# Altium footprint library ISeniorDesign.PcbLib: 19 footprints (part 2 of 2)
Each footprint in its own frame and in the unit in brackets; x right, y up, seen from the top. Pads: shape width x height; smd on the part's side, far side on the other; paste and mask are expansions set on the pad; w line width, h text height; cw(c..) or ccw(c..) is an arc to the next point about the centre after c.
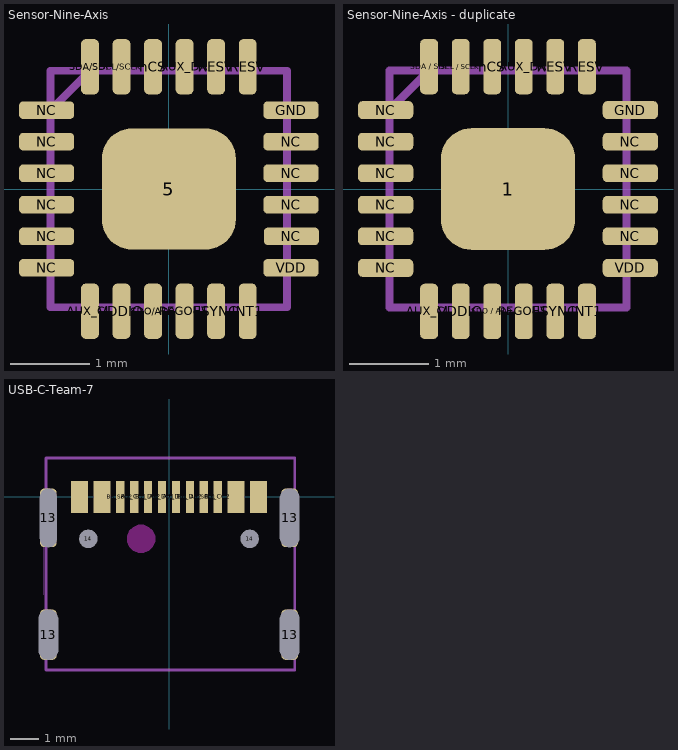
[diagram p1: the footprints below, top view; thin cyan lines are the x and y axes]

## Sensor-Nine-Axis [mm]
height 1
pads (26):
  rrect50% 1.7x1.54 smd: 5(0,0) ""(0,0)
  rrect50% 0.225x0.7 smd: AUX_CL(-1,-1.55) AUX_DA(0.2,1.55) FSYNC(0.6,-1.55) INT1(1,-1.55) nCS(-0.2,1.55) REGOUT(0.2,-1.55) RESV(0.6,1.55) RESV(1,1.55) SCL/SCLK(-0.6,1.55) SDA/SDI(-1,1.55) SDO/AD0(-0.2,-1.55) VDDIO(-0.6,-1.55)
  rrect50% 0.7x0.225 smd: GND(1.55,1) NC(-1.55,-1) NC(-1.55,-0.6) NC(-1.55,-0.2) NC(-1.55,0.2) NC(-1.55,0.6) NC(-1.55,1) NC(1.55,-0.2) NC(1.55,0.2) NC(1.55,0.6) NC(1.555,-0.6) VDD(1.55,-1)
Top Assembly:
  lines w0.1: -1.5,1 -1,1.5 ; -1.5,-1.5 1.5,-1.5 1.5,1.5 -1.5,1.5 -1.5,-1.5
  text ".Designator" at -0.9,-0.267 h0.4
3D body: height 1, standoff 0, extent -1.5,-1.5 1.5,1.5

## Sensor-Nine-Axis - duplicate [mm]
height 1
pads (25):
  rrect50% 1.7x1.54 smd: 1(0,0)
  rrect50% 0.225x0.7 smd: AUX_CL(-1,-1.55) AUX_DA(0.2,1.55) FSYNC(0.6,-1.55) INT1(1,-1.55) nCS(-0.2,1.55) REGOUT(0.2,-1.55) RESV(0.6,1.55) RESV(1,1.55) "SCL / SCLK"(-0.6,1.55) "SDA / SDI"(-1,1.55) "SDO / AD0"(-0.2,-1.55) VDDIO(-0.6,-1.55)
  rrect50% 0.7x0.225 smd: GND(1.55,1) NC(-1.55,-1) NC(-1.55,-0.6) NC(-1.55,-0.2) NC(-1.55,0.2) NC(-1.55,0.6) NC(-1.55,1) NC(1.55,-0.6) NC(1.55,-0.2) NC(1.55,0.2) NC(1.55,0.6) VDD(1.55,-1)
Top Assembly:
  lines w0.1: -1.5,1 -1,1.5 ; -1.5,-1.5 1.5,-1.5 1.5,1.5 -1.5,1.5 -1.5,-1.5
  text ".Designator" at -2.125,-2.45 h0.4
3D body: height 0.25, standoff 0, extent -1.5,-1.5 1.5,1.5

## USB-C-Team-7 [mm]
pads (18):
  rrect50% 0.6x1.8 hole 0.7 slot 1.8 at 90 deg mask+0: 13(-4.32,-4.93) 13(4.32,-4.93)
  rrect50% 0.6x2.1 hole 0.6 slot 2.1 at 90 deg mask+0: 13(-4.32,-0.75)
  rrect50% 0.6x2.1 hole 0.7 slot 2.1 at 90 deg mask+0: 13(4.32,-0.75)
  round 0.325 hole 0.65 mask+0: 14(-2.89,-1.5) 14(2.89,-1.5)
  rect 0.6x1.14 smd: A1_B12_GND(-3.2,0) A4_B9_VBUS(-2.4,0) B1_A12_GND(3.2,0) B4_A9_VBUS(2.4,0)
  rect 0.3x1.14 smd: A5_CC1(-1.25,0) A6_Dp1(-0.25,0) A7_Dn1(0.25,0) A8_SBU1(1.25,0) B5_CC2(1.75,0) B6_Dp2(0.75,0) B6_SBU2(-1.75,0) B7_Dn2(-0.75,0)
Keep-Out Layer:
  region: -1.5,-1.5 -1.5,-1.599 -1.424,-1.783 -1.283,-1.924 -1.099,-2 -1,-2 -0.901,-2 -0.717,-1.924 -0.576,-1.783 -0.5,-1.599 -0.5,-1.5 -0.5,-1.401 -0.576,-1.217 -0.717,-1.076 -0.901,-1 -1,-1 -1.099,-1 -1.283,-1.076 -1.424,-1.217 -1.5,-1.401
Top Assembly:
  pour cut-out: -4.5,-1.5 -4.5,-2.25 -4.5,-3.5
  lines w0.1: -4.4,-6.2 4.5,-6.2 4.5,1.4 -4.4,1.4 -4.4,-6.2
  text ".Designator" at -2.1,-3.467 h0.4
3D body "COM-15111--3DModel-STEP-56544.STEP": height 3.28, standoff -0.88, extent -4.42,-7.8 4.52,-0.2